# Altium footprint library LibWD.PcbLib: 8 footprints
Each footprint in its own frame and in the unit in brackets; x right, y up, seen from the top. Pads: shape width x height; smd on the part's side, far side on the other; paste and mask are expansions set on the pad; w line width, h text height; cw(c..) or ccw(c..) is an arc to the next point about the centre after c.
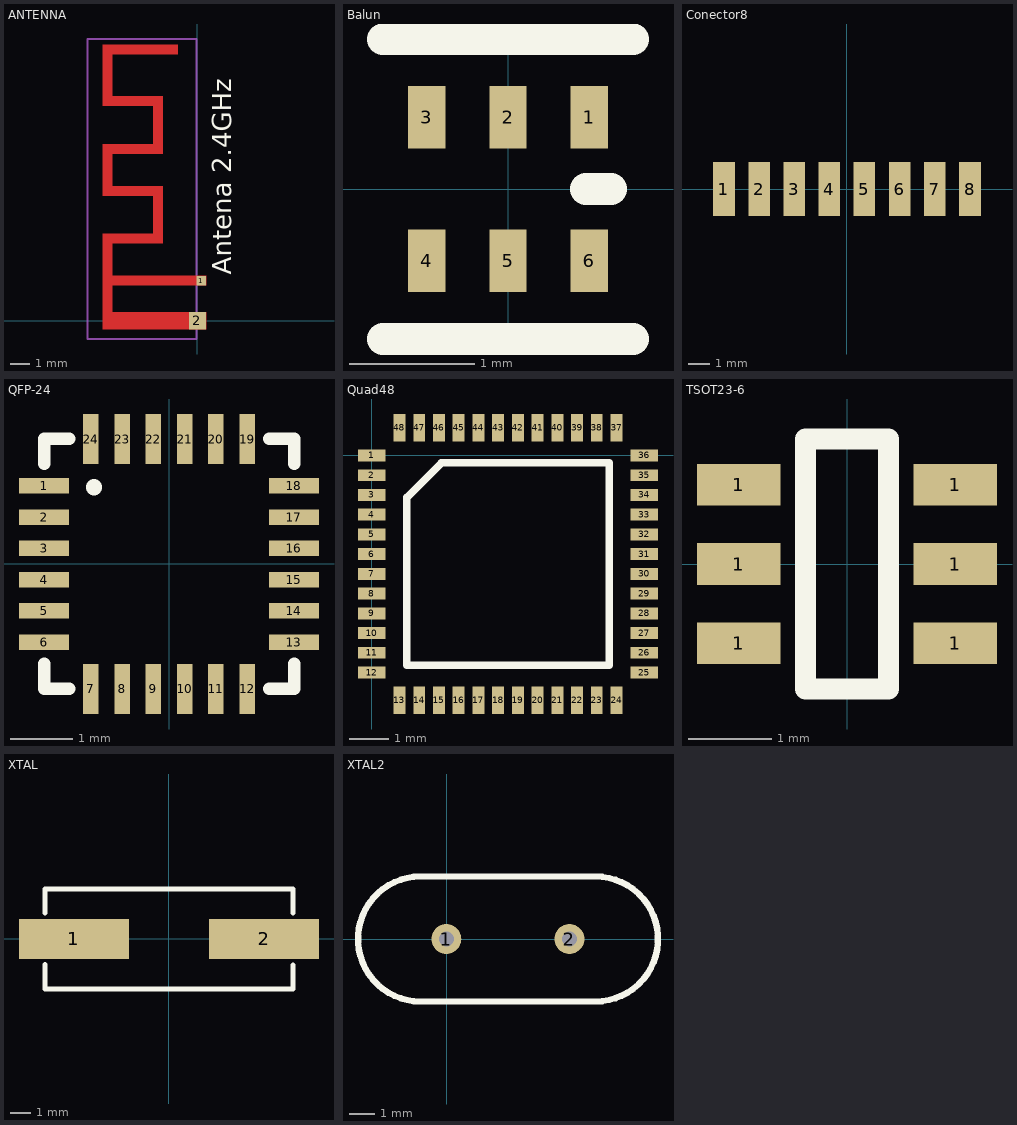
[diagram p0: the footprints below, top view; thin cyan lines are the x and y axes]

## ANTENNA [mm] "2.4 GHz Inverted F Antenna"
height 3
pads (2):
  rect 0.5x0.5 smd mask+0: 1(0.2,2.1)
  rect 0.9x0.9 smd mask+0: 2(0,0)
Top Layer:
  region: -4.45,4.55 -4.45,4.05 -1.81,4.05 -1.81,4.55 -4.475,4.55
  region: -4.45,-0.45 -4.95,-0.45 -4.95,4.55 -4.45,4.55
  region: 0.45,0.45 -4.45,0.45 -4.45,-0.45 0.45,-0.45
  region: -1.81,4.55 -2.31,4.55 -2.31,6.55 -1.81,6.55
  region: -1.81,6.55 -1.81,7.05 -4.45,7.05 -4.45,6.55
  region: -4.45,6.55 -4.95,6.55 -4.95,9.25 -4.45,9.25
  region: -4.45,9.25 -4.45,8.75 -1.81,8.75 -1.82,8.76 -1.82,9.25
  region: -1.82,9.25 -2.32,9.25 -2.32,11.25 -1.82,11.25
  region: -1.82,11.25 -1.82,11.75 -4.46,11.75 -4.46,11.25
  region: -4.46,11.25 -4.96,11.25 -4.96,13.95 -4.46,13.95
  region: -4.96,13.95 -4.96,14.45 -1.02,14.45 -1.02,13.95
  region: -4.45,1.85 -4.45,2.35 0.45,2.35 0.45,1.85
Top Overlay:
  text "Antena 2.4GHz" at 1.775,2.425 h1
Mechanical 15:
  lines w0.102: -5.75,-0.95 -5.75,14.75 -0.05,14.75 -0.05,-0.95 -5.75,-0.95

## Balun [mm]
pads (6):
  rect 0.3x0.5 smd: 1(0.65,0.575) 2(0,0.575) 3(-0.65,0.575) 4(-0.65,-0.575) 5(0,-0.575) 6(0.65,-0.575)
Top Overlay:
  lines w0.254: -1,-1.2 1,-1.2 ; -1,1.2 1,1.2 ; 0.625,0 0.825,0
3D body: height 1.3, standoff 0, extent -0.902,-0.927 0.902,0.927

## Conector8 [mm]
pads (8):
  rect 1x2.5 smd: 1(-5.689,0.008) 2(-4.064,0.008) 3(-2.439,0.008) 4(-0.814,0.008) 5(0.811,0.008) 6(2.461,0.008) 7(4.086,0.008) 8(5.711,0.008)

## QFP-24 [mm]
height 2
pads (24):
  rect 0.8x0.25 smd: 1(-2,1.25) 2(-2,0.75) 3(-2,0.25) 5(-2,-0.75) 6(-2,-1.25) 13(2,-1.25) 14(2,-0.75) 15(2,-0.25) 16(2,0.25) 17(2,0.75) 18(2,1.25)
  rect 0.8x0.25 smd mask+0.1: 4(-2,-0.25)
  rect 0.25x0.8 smd: 7(-1.25,-2) 8(-0.75,-2) 9(-0.25,-2) 10(0.25,-2) 11(0.75,-2) 12(1.25,-2) 19(1.25,2) 20(0.75,2) 21(0.25,2) 22(-0.25,2) 23(-0.75,2) 24(-1.25,2)
Top Overlay:
  lines w0.2: -2,-1.6 -2,-2 -1.6,-2 ; -2,1.6 -2,2 -1.6,2 ; 1.6,-2 2,-2 2,-1.6 ; 1.6,2 2,2 2,1.6
  lines w0.254: -1.2,1.225 ccw(c-1.255,1.232) -1.2,1.232

## Quad48 [mm]
pads (48):
  rect 0.7x0.3 smd: 1(0,0) 2(0,-0.5) 3(0,-1) 4(0,-1.5) 5(0,-2) 6(0,-2.5) 7(0,-3) 8(0,-3.5) 9(0,-4) 10(0,-4.5) 11(0,-5) 12(0,-5.5) 25(6.9,-5.5) 26(6.9,-5) 27(6.9,-4.5) 28(6.9,-4) 29(6.9,-3.5) 30(6.9,-3) 31(6.9,-2.5) 32(6.9,-2) 33(6.9,-1.5) 34(6.9,-1) 35(6.9,-0.5) 36(6.9,0)
  rect 0.3x0.7 smd: 13(0.7,-6.2) 14(1.2,-6.2) 15(1.7,-6.2) 16(2.2,-6.2) 17(2.7,-6.2) 18(3.2,-6.2) 19(3.7,-6.2) 20(4.2,-6.2) 21(4.7,-6.2) 22(5.2,-6.2) 23(5.7,-6.2) 24(6.2,-6.2) 37(6.2,0.7) 38(5.7,0.7) 39(5.2,0.7) 40(4.7,0.7) 41(4.2,0.7) 42(3.7,0.7) 43(3.2,0.7) 44(2.7,0.7) 45(2.2,0.7) 46(1.7,0.7) 47(1.2,0.7) 48(0.7,0.7)
Top Overlay:
  lines w0.2: 0.885,-5.315 0.885,-1.07 1.77,-0.185 6.015,-0.185 6.015,-5.315 0.885,-5.315

## TSOT23-6 [mm]
height 0.5
pads (6):
  rect 1x0.5 smd: 1(-1.3,-0.95) 1(-1.3,0) 1(-1.3,0.95) 1(1.3,-0.95) 1(1.3,0) 1(1.3,0.95)
Top Overlay:
  lines w0.254: -0.5,-1.5 0.5,-1.5 0.5,1.5 -0.5,1.5 -0.5,-1.5

## XTAL [mm]
pads (2):
  rect 5.5x2 smd: 1(-4.75,0) 2(4.75,0)
Top Overlay:
  lines w0.25: -6.2,-2.5 6.2,-2.5 ; -6.2,2.5 6.2,2.5
  lines w0.254: -6.2,-2.475 -6.2,-1.275 ; -6.2,1.3 -6.2,2.5 ; 6.2,-2.5 6.2,-1.3 ; 6.2,1.3 6.2,2.5

## XTAL2 [mm]
pads (2):
  round 1.2 hole 0.6: 1(-0.025,0) 2(4.9,0)
Top Overlay:
  lines w0.254: -1.05,-2.5 cw(c-1.057,0) -1.05,2.5 5.95,2.5 cw(c5.943,0) 5.95,-2.5 -1,-2.5